# Altium schematic symbol library FSA2257MUX.SchLib: 1 symbol
Pins are listed as number, name and electrical type; pins without a type are passive.

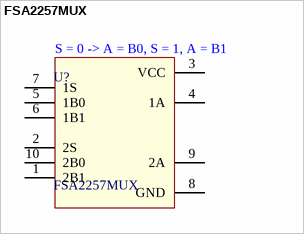
[diagram p0: symbol FSA2257MUX]

## FSA2257MUX
designator U?
Fairchild Semiconductor FSA2257MUX, Multiplexer Switch IC Dual SPDT, 1.65  5.5 V, 10-Pin MSOP; Manufacturer_Name: Fairchild Semiconductor; Manufacturer_Part_Number: FSA2257MUX; Mouser Part Number: 512-FSA2257MUX; Mouser Price/Stock: https://www.mouser.com/Search/Refine.aspx?Keyword=512-FSA2257MUX; RS Part Number: 8628823; RS Price/Stock: http://uk.rs-online.com/web/p/products/8628823; Datasheet Link: *
footprint 10-MSOP
pins: 1 2B1, 2 2S, 3 VCC, 4 1A, 5 1B0, 6 1B1, 7 1S, 8 GND, 9 2A, 10 2B0
text: S = 0 -> A = B0, S = 1, A = B1